# Altium integrated library GRM0335C1H200JA01D.IntLib: 1 symbol
Pins are listed as number, name and electrical type; pins without a type are passive.

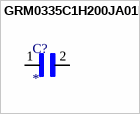
[diagram p0: symbol GRM0335C1H200JA01D]

## GRM0335C1H200JA01D
designator C?
SMD Capacitor C0G(EIA) with Capacitance: 20pF Tol. 5%. Rated Voltage: 50Vdc; MP: GRM0335C1H200JA01D; Package: None; Price: None; Value: *; Availability: Unavailable
footprint CAPC0603X33N
pins: 1, 2